# EAGLE library part LH1513AAC (library LH1513AAC)
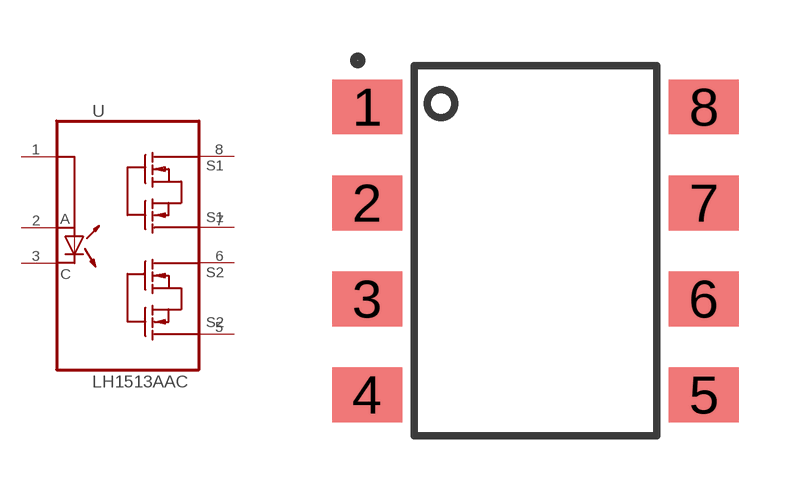
[diagram p0: symbol with the pads of SOIC254P977X406-8N; footprint SOIC254P977X406-8N]

Designator prefix U

## LH1513AAC (Description: Relay SSR 50mA 1.45V DC-IN 0.2A 200V AC/DC-OUT 8-Pin PDIP SMD Tube; Digi-Key_Part_Number: LH1513AAC-ND; Digi-Key_Purchase_URL: https://www.digikey.ca/product-detail/en/vishay-semiconductor-opto-division/LH1513AAC/LH1513AAC-ND/4072729?utm_source=snapeda&utm_medium=aggregator&utm_campaign=symbol; MF: Vishay Semiconductor; MP: LH1513AAC; Package: SMD-8 Vishay)  [SOIC254P977X406-8N]
1  A  pas
2  A'  pas
3  C  pas
5  S2'  pas
6  S2  pas
7  S1'  pas
8  S1  pas

## Footprint SOIC254P977X406-8N (pad centres in mm)
smd 1.85 x 1.45: 1 -4.45,3.81; 2 -4.45,1.27; 3 -4.45,-1.27; 4 -4.45,-3.81; 5 4.45,-3.81; 6 4.45,-1.27; 7 4.45,1.27; 8 4.45,3.81